# Altium schematic symbol library Regulator_Controller.SchLib: 154 symbols (part 1 of 2)
Pins are listed as number, name and electrical type; pins without a type are passive.

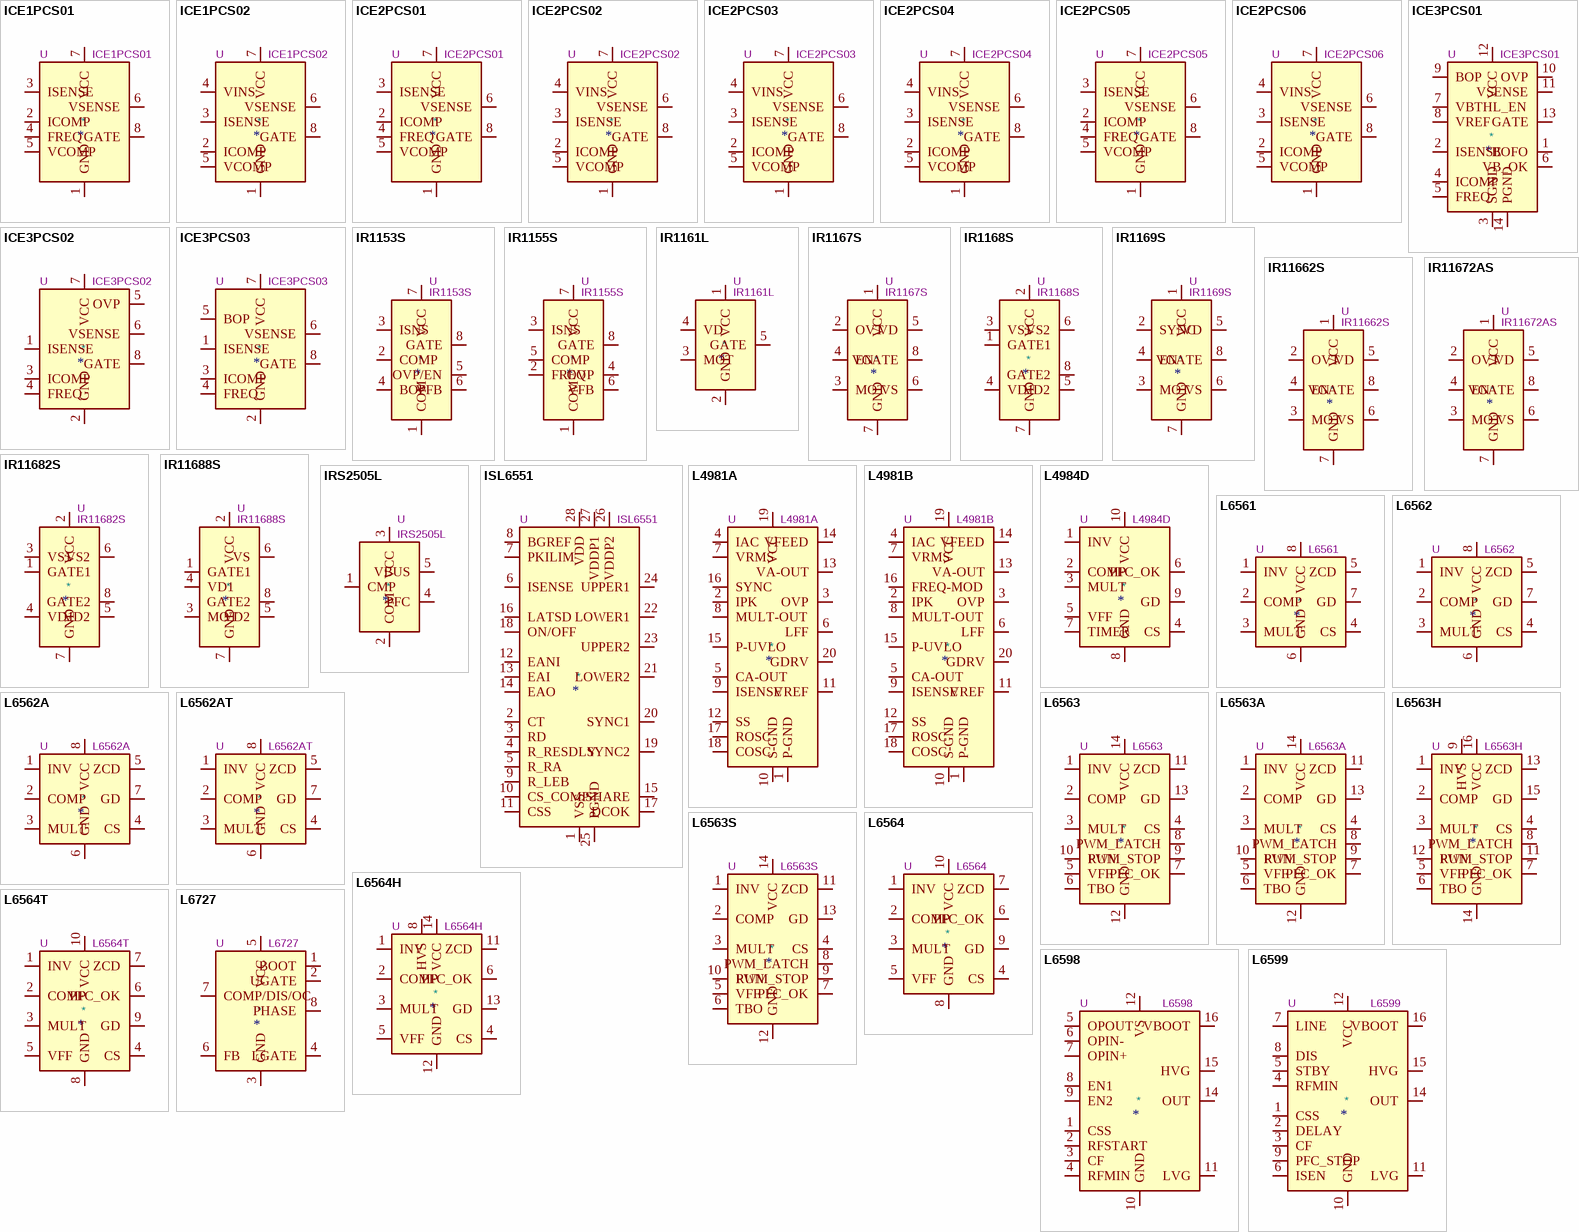
[diagram p0: symbols ICE1PCS01 to L6727]

## ICE1PCS01
designator *  value ICE1PCS01  Reference: U
ki_keywords: SMPS pfc controller; ki_description: Standalone PFC Controller in CCM, DIP-8/SOIC-8; ki_fp_filters: SOIC*3.9x4.9mm*P1.27mm* DIP*W7.62mm*; Datasheet: https://www.infineon.com/dgdl/Infineon-ICE1PCS01-DS-v01_03-en.pdf?fileId=db3a304412b407950112b427c6f13cc7
pins: 1 GND, 2 ICOMP, 3 ISENSE, 4 FREQ, 5 VCOMP, 6 VSENSE, 7 VCC, 8 GATE

## ICE1PCS02
designator *  value ICE1PCS02  Reference: U
ki_keywords: SMPS pfc controller; ki_description: Standalone PFC Controller in CCM With Input Brown-Out Protection, 65kHz, DIP-8/SOIC-8; ki_fp_filters: SOIC*3.9x4.9mm*P1.27mm* DIP*W7.62mm*; Datasheet: https://www.infineon.com/dgdl/Infineon-ICE1PCS02-DS-v01_02-en.pdf?fileId=db3a304412b407950112b427c9283ccb
pins: 1 GND, 2 ICOMP, 3 ISENSE, 4 VINS, 5 VCOMP, 6 VSENSE, 7 VCC, 8 GATE

## ICE2PCS01
designator *  value ICE2PCS01  Reference: U
ki_keywords: SMPS pfc controller; ki_description: Standalone PFC Controller in CCM, DIP-8/SOIC-8; ki_fp_filters: SOIC*3.9x4.9mm*P1.27mm* DIP*W7.62mm*; Datasheet: https://www.infineon.com/dgdl/Infineon-ICE2PCS01-DS-v02_03-en.pdf?fileId=db3a304412b407950112b427caa43ccf
pins: 1 GND, 2 ICOMP, 3 ISENSE, 4 FREQ, 5 VCOMP, 6 VSENSE, 7 VCC, 8 GATE

## ICE2PCS02
designator *  value ICE2PCS02  Reference: U
ki_keywords: SMPS pfc controller; ki_description: Standalone PFC Controller in CCM With Input Brown-Out Protection, 65kHz, DIP-8/SOIC-8; ki_fp_filters: SOIC*3.9x4.9mm*P1.27mm* DIP*W7.62mm*; Datasheet: https://www.infineon.com/dgdl/Infineon-ICE2PCS02-DS-v02_04-en.pdf?fileId=db3a304412b407950112b427cc3c3cdc
pins: 1 GND, 2 ICOMP, 3 ISENSE, 4 VINS, 5 VCOMP, 6 VSENSE, 7 VCC, 8 GATE

## ICE2PCS03
designator *  value ICE2PCS03  Reference: U
ki_keywords: SMPS pfc controller; ki_description: Standalone PFC Controller in CCM With Input Brown-Out Protection, 100kHz, DIP-8/SOIC-8; ki_fp_filters: SOIC*3.9x4.9mm*P1.27mm* DIP*W7.62mm*; Datasheet: https://www.infineon.com/dgdl/Infineon-ICE2PCS03-DS-v02_01-en.pdf?fileId=db3a30431936bc4b01193b45457e52a1
pins: 1 GND, 2 ICOMP, 3 ISENSE, 4 VINS, 5 VCOMP, 6 VSENSE, 7 VCC, 8 GATE

## ICE2PCS04
designator *  value ICE2PCS04  Reference: U
ki_keywords: SMPS pfc controller; ki_description: Standalone PFC Controller in CCM With Input Brown-Out Protection, 133kHz, DIP-8/SOIC-8; ki_fp_filters: SOIC*3.9x4.9mm*P1.27mm* DIP*W7.62mm*; Datasheet: https://www.infineon.com/dgdl/Infineon-ICE2PCS04-DS-v02_01-en.pdf?fileId=db3a30431936bc4b01193b4e467952a9
pins: 1 GND, 2 ICOMP, 3 ISENSE, 4 VINS, 5 VCOMP, 6 VSENSE, 7 VCC, 8 GATE

## ICE2PCS05
designator *  value ICE2PCS05  Reference: U
ki_keywords: SMPS pfc controller; ki_description: Standalone PFC Controller in CCM, DIP-8/SOIC-8; ki_fp_filters: SOIC*3.9x4.9mm*P1.27mm* DIP*W7.62mm*; Datasheet: https://www.infineon.com/dgdl/Infineon-ICE2PCS05-DS-v01_02-en.pdf?fileId=db3a30431c69a49d011cdfb46a834373
pins: 1 GND, 2 ICOMP, 3 ISENSE, 4 FREQ, 5 VCOMP, 6 VSENSE, 7 VCC, 8 GATE

## ICE2PCS06
designator *  value ICE2PCS06  Reference: U
ki_keywords: SMPS pfc controller; ki_description: Standalone PFC Controller in CCM With Input Brown-Out Protection, 65kHz, DIP-8/SOIC-8; ki_fp_filters: SOIC*3.9x4.9mm*P1.27mm* DIP*W7.62mm*; Datasheet: https://www.infineon.com/dgdl/Infineon-ICE2PCS06-DS-v01_01-en.pdf?fileId=db3a3043327f13e3013285ff4ecb2e77
pins: 1 GND, 2 ICOMP, 3 ISENSE, 4 VINS, 5 VCOMP, 6 VSENSE, 7 VCC, 8 GATE

## ICE3PCS01
designator *  value ICE3PCS01  Reference: U
ki_keywords: SMPS pfc controller; ki_description: Standalone PFC Controller in CCM, SOIC-14; ki_fp_filters: SOIC*3.9x8.7mm*P1.27mm*; Footprint: Package_SO:SOIC-14_3.9x8.7mm_P1.27mm; Datasheet: https://www.infineon.com/dgdl/Infineon-ICE3PCS01-DS-v03_00-EN.pdf?fileId=db3a304329a0f6ee0129a67ae8c02b46
pins: 1 BOFO, 2 ISENSE, 3 SGND, 4 ICOMP, 5 FREQ, 6 VB_OK, 7 VBTHL_EN, 8 VREF, 9 BOP, 10 OVP, 11 VSENSE, 12 VCC, 13 GATE, 14 PGND

## ICE3PCS02
designator *  value ICE3PCS02  Reference: U
ki_keywords: SMPS pfc controller; ki_description: Standalone PFC Controller in CCM, SOIC-8; ki_fp_filters: SOIC*3.9x4.9mm*P1.27mm*; Footprint: Package_SO:SOIC-8_3.9x4.9mm_P1.27mm; Datasheet: https://www.infineon.com/dgdl/Infineon-ICE3PCS02G-DS-v03_00-EN.pdf?fileId=db3a304329a0f6ee0129a67fab472b4b
pins: 1 ISENSE, 2 GND, 3 ICOMP, 4 FREQ, 5 OVP, 6 VSENSE, 7 VCC, 8 GATE

## ICE3PCS03
designator *  value ICE3PCS03  Reference: U
ki_keywords: SMPS pfc controller; ki_description: Standalone PFC Controller in CCM, SOIC-8; ki_fp_filters: SOIC*3.9x4.9mm*P1.27mm*; Footprint: Package_SO:SOIC-8_3.9x4.9mm_P1.27mm; Datasheet: https://www.infineon.com/dgdl/Infineon-ICE3PCS03G-DS-v03_00-EN.pdf?fileId=db3a304329a0f6ee0129a683c9c92b50
pins: 1 ISENSE, 2 GND, 3 ICOMP, 4 FREQ, 5 BOP, 6 VSENSE, 7 VCC, 8 GATE

## IR1153S
designator *  value IR1153S  Reference: U
ki_keywords: pfc controller ccm; ki_description: Fixed 22.2kHz Frequency, uPFC One Cycle Control IC With Brown-Out Protection, Continuous Conduction Mode, SOIC-8; ki_fp_filters: SOIC*3.9x4.9mm*P1.27mm*; Footprint: Package_SO:SOIC-8_3.9x4.9mm_P1.27mm; Datasheet: https://www.infineon.com/dgdl/ir1153.pdf?fileId=5546d462533600a4015355c42a5b1649
pins: 1 COM, 2 COMP, 3 ISNS, 4 BOP, 5 OVP/EN, 6 VFB, 7 VCC, 8 GATE

## IR1155S
designator *  value IR1155S  Reference: U
ki_keywords: pfc controller ccm; ki_description: Programmable Frequency, One Cycle Control PFC IC, Continuous Conduction Mode, SOIC-8; ki_fp_filters: SOIC*3.9x4.9mm*P1.27mm*; Footprint: Package_SO:SOIC-8_3.9x4.9mm_P1.27mm; Datasheet: https://www.infineon.com/dgdl/ir1155spbf.pdf?fileId=5546d462533600a4015355c431f9164b
pins: 1 COM, 2 FREQ, 3 ISNS, 4 OVP, 5 COMP, 6 VFB, 7 VCC, 8 GATE

## IR1161L
designator *  value IR1161L  Reference: U
ki_keywords: synchronous rectifier controller; ki_description: SmartRectifier Control IC, 500kHz, 200V, 1.0/2.5A, SOT-23-5; ki_fp_filters: SOT?23*; Footprint: Package_TO_SOT_SMD:SOT-23-5; Datasheet: https://www.infineon.com/dgdl/ir1161lpbf.pdf?fileId=5546d462533600a4015355c439a5164d
pins: 1 VCC, 2 GND, 3 MOT, 4 VD, 5 GATE

## IR1167S
designator *  value IR1167S  Reference: U
ki_keywords: synchronous rectifier controller; ki_description: SmartRectifier Control IC, 500kHz, 200V, 2.0/7.0A, SOIC-8; ki_fp_filters: SOIC*3.9x4.9mm*P1.27mm*; Footprint: Package_SO:SOIC-8_3.9x4.9mm_P1.27mm; Datasheet: https://www.infineon.com/dgdl/ir1167aspbf.pdf?fileId=5546d462533600a4015355c45d9c1655
pins: 1 VCC, 2 OVT, 3 MOT, 4 EN, 5 VD, 6 VS, 7 GND, 8 VGATE

## IR1168S
designator *  value IR1168S  Reference: U
ki_keywords: dual synchronous rectifier controller; ki_description: Dual Smart Rectifier Driver IC, 500kHz, 200V, 1.0/4.0A, SOIC-8; ki_fp_filters: SOIC*3.9x4.9mm*P1.27mm*; Footprint: Package_SO:SOIC-8_3.9x4.9mm_P1.27mm; Datasheet: https://www.infineon.com/dgdl/ir1168.pdf?fileId=5546d462533600a4015355c467fa1658
pins: 1 GATE1, 2 VCC, 3 VS1, 4 VD1, 5 VD2, 6 VS2, 7 GND, 8 GATE2

## IR1169S
designator *  value IR1169S  Reference: U
ki_keywords: synchronous rectifier controller; ki_description: Advanced SmartRectifier Control IC, 500kHz, 200V, 1.0/4.0A, SOIC-8; ki_fp_filters: SOIC*3.9x4.9mm*P1.27mm*; Footprint: Package_SO:SOIC-8_3.9x4.9mm_P1.27mm; Datasheet: https://www.infineon.com/dgdl/ir1169.pdf?fileId=5546d462533600a4015355c485c4165e
pins: 1 VCC, 2 SYNC, 3 MOT, 4 EN, 5 VD, 6 VS, 7 GND, 8 VGATE

## IR11662S
designator *  value IR11662S  Reference: U
ki_keywords: synchronous rectifier controller; ki_description: Advanced SmartRectifier Control IC, 500kHz, 200V, 1.0/4.0A, SOIC-8; ki_fp_filters: SOIC*3.9x4.9mm*P1.27mm*; Footprint: Package_SO:SOIC-8_3.9x4.9mm_P1.27mm; Datasheet: https://www.infineon.com/dgdl/ir11662spbf.pdf?fileId=5546d462533600a4015355c44195164f
pins: 1 VCC, 2 OVT, 3 MOT, 4 EN, 5 VD, 6 VS, 7 GND, 8 VGATE

## IR11672AS
designator *  value IR11672AS  Reference: U
ki_keywords: synchronous rectifier controller; ki_description: Advanced SmartRectifier Control IC, 500kHz, 200V, 2.0/7.0A, SOIC-8; ki_fp_filters: SOIC*3.9x4.9mm*P1.27mm*; Footprint: Package_SO:SOIC-8_3.9x4.9mm_P1.27mm; Datasheet: https://www.infineon.com/dgdl/ir11672aspbf.pdf?fileId=5546d462533600a4015355c455561653
pins: 1 VCC, 2 OVT, 3 MOT, 4 EN, 5 VD, 6 VS, 7 GND, 8 VGATE

## IR11682S
designator *  value IR11682S  Reference: U
ki_keywords: dual synchronous rectifier controller; ki_description: Dual SmartRectifier Driver IC, 400kHz, 200V, 1.0/4.0A, SOIC-8; ki_fp_filters: SOIC*3.9x4.9mm*P1.27mm*; Footprint: Package_SO:SOIC-8_3.9x4.9mm_P1.27mm; Datasheet: https://www.infineon.com/dgdl/ir11682spbf.pdf?fileId=5546d462533600a4015355c47188165a
pins: 1 GATE1, 2 VCC, 3 VS1, 4 VD1, 5 VD2, 6 VS2, 7 GND, 8 GATE2

## IR11688S
designator *  value IR11688S  Reference: U
ki_keywords: dual synchronous rectifier controller; ki_description: Dual Synchronous Rectification Control IC, 400kHz, 200V, 1.0/4.0A, SOIC-8; ki_fp_filters: SOIC*3.9x4.9mm*P1.27mm*; Footprint: Package_SO:SOIC-8_3.9x4.9mm_P1.27mm; Datasheet: https://www.infineon.com/dgdl/ir11688spbf.pdf?fileId=5546d462533600a4015355c47c70165c
pins: 1 GATE1, 2 VCC, 3 MOT, 4 VD1, 5 VD2, 6 VS, 7 GND, 8 GATE2

## IRS2505L
designator *  value IRS2505L  Reference: U
ki_keywords: pfc controller crcm dcm; ki_description: Boost PFC and SMPS Control IC, Critical Conduction Mode, SOT-23-5; ki_fp_filters: SOT?23*; Footprint: Package_TO_SOT_SMD:SOT-23-5; Datasheet: https://www.infineon.com/dgdl/irs2505lpbf.pdf?fileId=5546d462533600a40153567ad42c2819
pins: 1 CMP, 2 COM, 3 VCC, 4 PFC, 5 VBUS

## ISL6551
designator *  value ISL6551  Reference: U
ki_keywords: SMPS controller; ki_description: ZVS Full Bridge PWM Controller, SOIC-28; ki_fp_filters: SOIC*7.5x17.9mm*P1.27mm*; Footprint: Package_SO:SOIC-28W_7.5x17.9mm_P1.27mm; Datasheet: https://www.intersil.com/content/dam/Intersil/documents/isl6/isl6551.pdf
pins: 1 VSS, 2 CT, 3 RD, 4 R_RESDLY, 5 R_RA, 6 ISENSE, 7 PKILIM, 8 BGREF, 9 R_LEB, 10 CS_COMP, 11 CSS, 12 EANI, 13 EAI, 14 EAO, 15 SHARE, 16 LATSD, 17 DCOK, 18 ON/OFF, 19 SYNC2, 20 SYNC1, 21 LOWER2, 22 LOWER1, 23 UPPER2, 24 UPPER1, 25 PGND, 26 VDDP2, 27 VDDP1, 28 VDD

## L4981A
designator *  value L4981A  Reference: U
ki_keywords: SMPS pfc controller; ki_description: Power Factor Corrector, Fixed Frequency Average Current Mode, DIP-20/SOIC-20; ki_fp_filters: SOIC*7.5x12.8mm*P1.27mm* DIP*W7.62mm*; Datasheet: http://www.st.com/resource/en/datasheet/l4981.pdf
pins: 1 P-GND, 2 IPK, 3 OVP, 4 IAC, 5 CA-OUT, 6 LFF, 7 VRMS, 8 MULT-OUT, 9 ISENSE, 10 S-GND, 11 VREF, 12 SS, 13 VA-OUT, 14 VFEED, 15 P-UVLO, 16 SYNC, 17 ROSC, 18 COSC, 19 VCC, 20 GDRV

## L4981B
designator *  value L4981B  Reference: U
ki_keywords: SMPS pfc controller; ki_description: Power Factor Corrector, Line Modulated Frequency Average Current Mode, DIP-20/SOIC-20; ki_fp_filters: SOIC*7.5x12.8mm*P1.27mm* DIP*W7.62mm*; Datasheet: http://www.st.com/resource/en/datasheet/l4981.pdf
pins: 1 P-GND, 2 IPK, 3 OVP, 4 IAC, 5 CA-OUT, 6 LFF, 7 VRMS, 8 MULT-OUT, 9 ISENSE, 10 S-GND, 11 VREF, 12 SS, 13 VA-OUT, 14 VFEED, 15 P-UVLO, 16 FREQ-MOD, 17 ROSC, 18 COSC, 19 VCC, 20 GDRV

## L4984D
designator *  value L4984D  Reference: U
ki_keywords: SMPS pfc controller; ki_description: CCM PFC Controller, SSOP-10; ki_fp_filters: SSOP*3.9x4.9mm*P1.00mm*; Footprint: Package_SO:SSOP-10_3.9x4.9mm_P1.00mm; Datasheet: http://www.st.com/resource/en/datasheet/l4984d.pdf
pins: 1 INV, 2 COMP, 3 MULT, 4 CS, 5 VFF, 6 PFC_OK, 7 TIMER, 8 GND, 9 GD, 10 VCC

## L6561
designator *  value L6561  Reference: U
ki_keywords: SMPS pfc controller; ki_description: Transition Mode Power Factor Corrector, DIP-8/SOIC-8; ki_fp_filters: SOIC*3.9x4.9mm*P1.27mm* DIP*W7.62mm*; Datasheet: http://www.st.com/resource/en/datasheet/l6561.pdf
pins: 1 INV, 2 COMP, 3 MULT, 4 CS, 5 ZCD, 6 GND, 7 GD, 8 VCC

## L6562
designator *  value L6562  Reference: U
ki_keywords: SMPS pfc controller; ki_description: Transition-Mode PFC Controller, DIP-8/SOIC-8; ki_fp_filters: SOIC*3.9x4.9mm*P1.27mm* DIP*W7.62mm*; Datasheet: http://www.st.com/resource/en/datasheet/l6562.pdf
pins: 1 INV, 2 COMP, 3 MULT, 4 CS, 5 ZCD, 6 GND, 7 GD, 8 VCC

## L6562A
designator *  value L6562A  Reference: U
ki_keywords: SMPS pfc controller; ki_description: Transition-Mode PFC Controller, DIP-8/SOIC-8; ki_fp_filters: SOIC*3.9x4.9mm*P1.27mm* DIP*W7.62mm*; Datasheet: http://www.st.com/resource/en/datasheet/l6562a.pdf
pins: 1 INV, 2 COMP, 3 MULT, 4 CS, 5 ZCD, 6 GND, 7 GD, 8 VCC

## L6562AT
designator *  value L6562AT  Reference: U
ki_keywords: SMPS pfc controller; ki_description: Transition-Mode PFC Controller, DIP-8/SOIC-8; ki_fp_filters: SOIC*3.9x4.9mm*P1.27mm* DIP*W7.62mm*; Datasheet: http://www.st.com/resource/en/datasheet/l6562at.pdf
pins: 1 INV, 2 COMP, 3 MULT, 4 CS, 5 ZCD, 6 GND, 7 GD, 8 VCC

## L6563
designator *  value L6563  Reference: U
ki_keywords: SMPS pfc controller; ki_description: Advanced Transition-Mode PFC Controller, SOIC-14; ki_fp_filters: SOIC*3.9x8.7mm*P1.27mm*; Footprint: Package_SO:SOIC-14_3.9x8.7mm_P1.27mm; Datasheet: http://www.st.com/resource/en/datasheet/l6563.pdf
pins: 1 INV, 2 COMP, 3 MULT, 4 CS, 5 VFF, 6 TBO, 7 PFC_OK, 8 PWM_LATCH, 9 PWM_STOP, 10 RUN, 11 ZCD, 12 GND, 13 GD, 14 VCC

## L6563A
designator *  value L6563A  Reference: U
ki_keywords: SMPS pfc controller; ki_description: Advanced Transition-Mode PFC Controller, SOIC-14; ki_fp_filters: SOIC*3.9x8.7mm*P1.27mm*; Footprint: Package_SO:SOIC-14_3.9x8.7mm_P1.27mm; Datasheet: http://www.st.com/resource/en/datasheet/l6563.pdf
pins: 1 INV, 2 COMP, 3 MULT, 4 CS, 5 VFF, 6 TBO, 7 PFC_OK, 8 PWM_LATCH, 9 PWM_STOP, 10 RUN, 11 ZCD, 12 GND, 13 GD, 14 VCC

## L6563H
designator *  value L6563H  Reference: U
ki_keywords: SMPS pfc controller; ki_description: High Voltage Start-Up Transition-Mode PFC, SOIC-16; ki_fp_filters: SOIC*3.9x9.9mm*P1.27mm*; Footprint: Package_SO:SOIC-16_3.9x9.9mm_P1.27mm; Datasheet: http://www.st.com/resource/en/datasheet/l6563h.pdf
pins: 1 INV, 2 COMP, 3 MULT, 4 CS, 5 VFF, 6 TBO, 7 PFC_OK, 8 PWM_LATCH, 9 HVS, 10 NC hidden, 11 PWM_STOP, 12 RUN, 13 ZCD, 14 GND, 15 GD, 16 VCC

## L6563S
designator *  value L6563S  Reference: U
ki_keywords: SMPS pfc controller; ki_description: Enhanced Transition-Mode PFC Controller, SOIC-14; ki_fp_filters: SOIC*3.9x8.7mm*P1.27mm*; Footprint: Package_SO:SOIC-14_3.9x8.7mm_P1.27mm; Datasheet: http://www.st.com/resource/en/datasheet/l6563s.pdf
pins: 1 INV, 2 COMP, 3 MULT, 4 CS, 5 VFF, 6 TBO, 7 PFC_OK, 8 PWM_LATCH, 9 PWM_STOP, 10 RUN, 11 ZCD, 12 GND, 13 GD, 14 VCC

## L6564
designator *  value L6564  Reference: U
ki_keywords: SMPS pfc controller; ki_description: 10-Pin Transition-Mode PFC Controller, SSOP-10; ki_fp_filters: SSOP*3.9x4.9mm*P1.00mm*; Footprint: Package_SO:SSOP-10_3.9x4.9mm_P1.00mm; Datasheet: http://www.st.com/resource/en/datasheet/l6564.pdf
pins: 1 INV, 2 COMP, 3 MULT, 4 CS, 5 VFF, 6 PFC_OK, 7 ZCD, 8 GND, 9 GD, 10 VCC

## L6564H
designator *  value L6564H  Reference: U
ki_keywords: SMPS pfc controller; ki_description: High Voltage Start-Up Transition-Mode PFC, SOIC-14; ki_fp_filters: SOIC*3.9x8.7mm*P1.27mm*; Footprint: Package_SO:SOIC-14_3.9x8.7mm_P1.27mm; Datasheet: http://www.st.com/resource/en/datasheet/l6564h.pdf
pins: 1 INV, 2 COMP, 3 MULT, 4 CS, 5 VFF, 6 PFC_OK, 7 NC hidden, 8 HVS, 9 NC hidden, 10 NC hidden, 11 ZCD, 12 GND, 13 GD, 14 VCC

## L6564T
designator *  value L6564T  Reference: U
ki_keywords: SMPS pfc controller; ki_description: 10-Pin Transition-Mode PFC Controller for Outdoor Applications, SSOP-10; ki_fp_filters: SSOP*3.9x4.9mm*P1.00mm*; Footprint: Package_SO:SSOP-10_3.9x4.9mm_P1.00mm; Datasheet: http://www.st.com/resource/en/datasheet/l6564t.pdf
pins: 1 INV, 2 COMP, 3 MULT, 4 CS, 5 VFF, 6 PFC_OK, 7 ZCD, 8 GND, 9 GD, 10 VCC

## L6598
designator *  value L6598  Reference: U
ki_keywords: SMPS controller; ki_description: High Voltage Resonant Controller, DIP-16/SOIC-16; ki_fp_filters: SOIC*3.9x9.9mm*P1.27mm* DIP*W7.62mm*; Datasheet: www.st.com/resource/en/datasheet/l6598.pdf
pins: 1 CSS, 2 RFSTART, 3 CF, 4 RFMIN, 5 OPOUT, 6 OPIN-, 7 OPIN+, 8 EN1, 9 EN2, 10 GND, 11 LVG, 12 VS, 13 NC hidden, 14 OUT, 15 HVG, 16 VBOOT

## L6599
designator *  value L6599  Reference: U
ki_keywords: SMPS controller; ki_description: High Voltage Resonant Controller, DIP-16/SOIC-16; ki_fp_filters: SOIC*3.9x9.9mm*P1.27mm* DIP*W7.62mm*; Datasheet: www.st.com/resource/en/datasheet/l6599.pdf
pins: 1 CSS, 2 DELAY, 3 CF, 4 RFMIN, 5 STBY, 6 ISEN, 7 LINE, 8 DIS, 9 PFC_STOP, 10 GND, 11 LVG, 12 VCC, 13 NC hidden, 14 OUT, 15 HVG, 16 VBOOT

## L6727
designator *  value L6727  Reference: U
ki_keywords: SMPS controller; ki_description: Single Phase PWM Controller, SOIC-8; ki_fp_filters: SOIC*3.9x4.9mm*P1.27mm*; Footprint: Package_SO:SOIC-8_3.9x4.9mm_P1.27mm; Datasheet: http://www.st.com/resource/en/datasheet/l6727.pdf
pins: 1 BOOT, 2 UGATE, 3 GND, 4 LGATE, 5 VCC, 6 FB, 7 COMP/DIS/OC, 8 PHASE

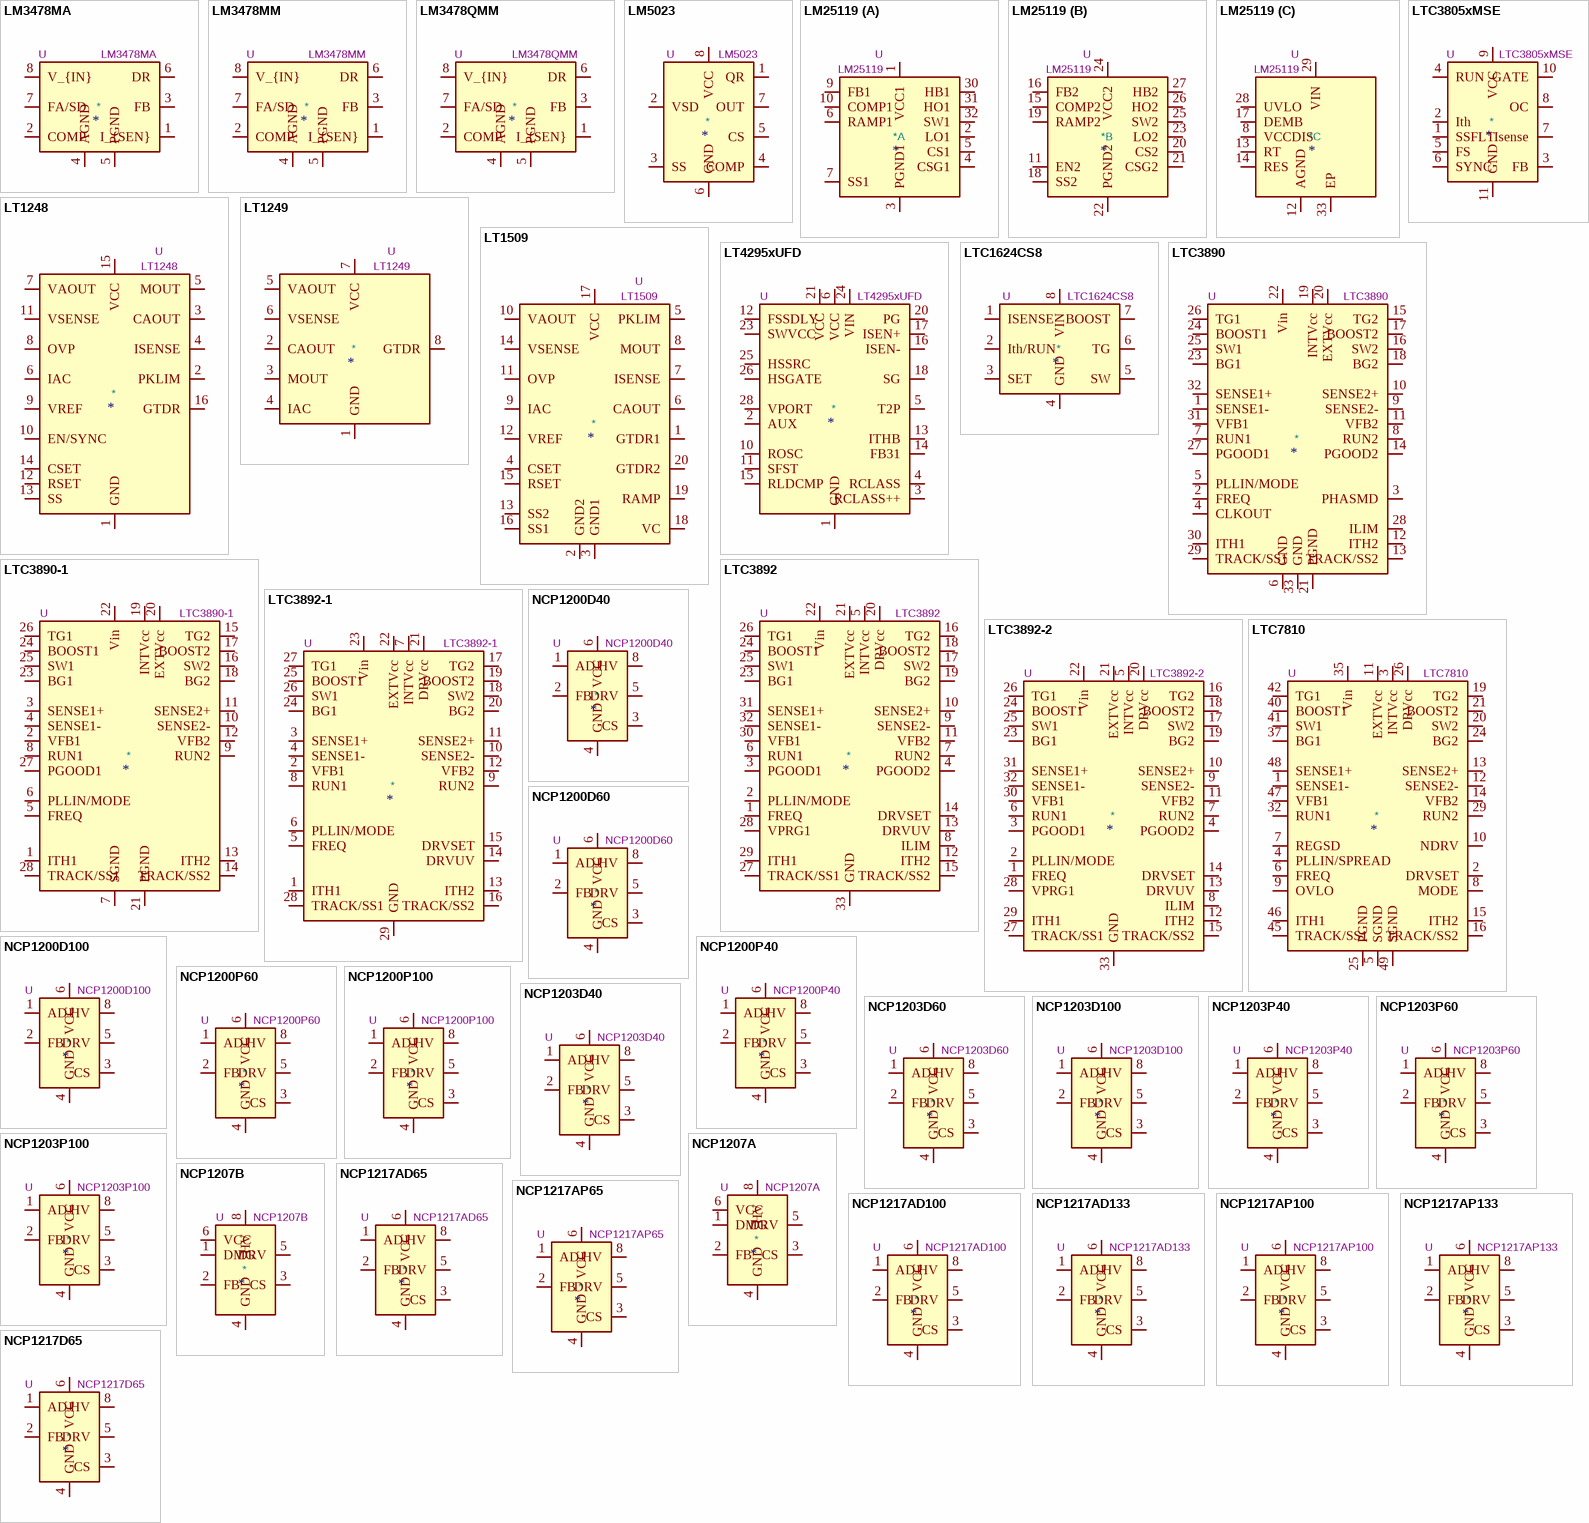
[diagram p1: symbols LM3478MA to NCP1217D65]

## LM3478MA
designator *  value LM3478MA  Reference: U
ki_keywords: Boost flyback SEPIC DC-DC controller; ki_description: 2.97~40V Wide Input Range Boost/SEPIC/Flyback DC-DC Controller, SOIC-8; ki_fp_filters: SOIC-8*3.9x4.9mm_P1.27mm*; Footprint: Package_SO:SOIC-8_3.9x4.9mm_P1.27mm; Datasheet: https://www.ti.com/lit/gpn/lm3478
pins: 1 I_{SEN}, 2 COMP, 3 FB, 4 AGND, 5 PGND, 6 DR, 7 FA/SD, 8 V_{IN}

## LM3478MM
designator *  value LM3478MM  Reference: U
ki_keywords: Boost flyback SEPIC DC-DC controller; ki_description: 2.97~40V Wide Input Range Boost/SEPIC/Flyback DC-DC Controller, VSSOP-8; ki_fp_filters: VSSOP-8_3.0x3.0mm_P0.65mm*; Footprint: Package_SO:VSSOP-8_3.0x3.0mm_P0.65mm; Datasheet: https://www.ti.com/lit/gpn/lm3478
pins: 1 I_{SEN}, 2 COMP, 3 FB, 4 AGND, 5 PGND, 6 DR, 7 FA/SD, 8 V_{IN}

## LM3478QMM
designator *  value LM3478QMM  Reference: U
ki_keywords: Boost flyback SEPIC DC-DC controller Automotive; ki_description: 2.97~40V Wide Input Range Boost/SEPIC/Flyback DC-DC Controller, AEC-Q100 Qualified, VSSOP-8; ki_fp_filters: VSSOP-8_3.0x3.0mm_P0.65mm*; Footprint: Package_SO:VSSOP-8_3.0x3.0mm_P0.65mm; Datasheet: https://www.ti.com/lit/gpn/lm3478q-q1
pins: 1 I_{SEN}, 2 COMP, 3 FB, 4 AGND, 5 PGND, 6 DR, 7 FA/SD, 8 V_{IN}

## LM5023
designator *  value LM5023  Reference: U
ki_keywords: smps pwm controller ac-dc ac dc offline off-line quasi resonant quasi-resonant flyback; ki_description: Quasi-Resonant Current-Mode PWM Controller for Off-Line Supplies, OVP/OTP, Latched OVP, VSSOP-8; ki_fp_filters: VSSOP*3.0x3.0mm*P0.65mm*; Footprint: Package_SO:VSSOP-8_3.0x3.0mm_P0.65mm; Datasheet: https://www.ti.com/lit/ds/symlink/lm5023.pdf
pins: 1 QR, 2 VSD, 3 SS, 4 COMP, 5 CS, 6 GND, 7 OUT, 8 VCC

## LM25119
designator *  value LM25119  Reference: U
ki_keywords: Dual Synchronous Buck; ki_description: Wide Input Range, Dual Synchronous Buck Controller, WQFN-32; ki_fp_filters: WQFN*5x5mm*P0.5mm*; Footprint: Package_DFN_QFN:WQFN-32-1EP_5x5mm_P0.5mm_EP3.1x3.1mm; Datasheet: http://www.ti.com/lit/ds/symlink/lm25119.pdf
part A pins: 1 VCC1, 2 LO1, 3 PGND1, 4 CSG1, 5 CS1, 6 RAMP1, 7 SS1, 9 FB1, 10 COMP1, 30 HB1, 31 HO1, 32 SW1
part B pins: 11 EN2, 15 COMP2, 16 FB2, 18 SS2, 19 RAMP2, 20 CS2, 21 CSG2, 22 PGND2, 23 LO2, 24 VCC2, 25 SW2, 26 HO2, 27 HB2
part C pins: 8 VCCDIS, 12 AGND, 13 RT, 14 RES, 17 DEMB, 28 UVLO, 29 VIN, 33 EP

## LT1248
designator *  value LT1248  Reference: U
ki_keywords: pfc controller; ki_description: Power Factor Controller, DIP-16/SOIC-16; ki_fp_filters: SOIC*16*3.9x9.9mm*P1.27mm* DIP*16*W7.62mm*; Datasheet: https://www.analog.com/media/en/technical-documentation/data-sheets/1248fd.pdf
pins: 1 GND, 2 PKLIM, 3 CAOUT, 4 ISENSE, 5 MOUT, 6 IAC, 7 VAOUT, 8 OVP, 9 VREF, 10 EN/SYNC, 11 VSENSE, 12 RSET, 13 SS, 14 CSET, 15 VCC, 16 GTDR

## LT1249
designator *  value LT1249  Reference: U
ki_keywords: pfc controller; ki_description: Power Factor Controller, DIP-8/SOIC-8; ki_fp_filters: SOIC*3.9x4.9mm*P1.27mm* DIP*W7.62mm*; Datasheet: https://www.analog.com/media/en/technical-documentation/data-sheets/1249fbs.pdf
pins: 1 GND, 2 CAOUT, 3 MOUT, 4 IAC, 5 VAOUT, 6 VSENSE, 7 VCC, 8 GTDR

## LT1509
designator *  value LT1509  Reference: U
ki_keywords: pfc pwm controller; ki_description: Power Factor and PWM Controller, DIP-20/SOIC-20; ki_fp_filters: SOIC*7.5x12.8mm*P1.27mm* DIP*W7.62mm*; Datasheet: https://www.analog.com/media/en/technical-documentation/data-sheets/lt1509.pdf
pins: 1 GTDR1, 2 GND2, 3 GND1, 4 CSET, 5 PKLIM, 6 CAOUT, 7 ISENSE, 8 MOUT, 9 IAC, 10 VAOUT, 11 OVP, 12 VREF, 13 SS2, 14 VSENSE, 15 RSET, 16 SS1, 17 VCC, 18 VC, 19 RAMP, 20 GTDR2

## LT4295xUFD
designator *  value LT4295xUFD  Reference: U
ki_keywords: LTPoE++ IEEE 802.3af IEEE 802.3at IEEE 802.3bt; ki_description: IEEE 802.3bt PD Interface with Forward/Flyback Controller, QFN-28; ki_fp_filters: QFN*1EP*4x5mm*P0.5mm*; Footprint: Package_DFN_QFN:QFN-28-1EP_4x5mm_P0.5mm_EP2.65x3.65mm; Datasheet: https://www.analog.com/media/en/technical-documentation/data-sheets/LT4295.pdf
pins: 1 GND, 2 AUX, 3 RCLASS++, 4 RCLASS, 5 T2P, 6 VCC, 7 VCC hidden, 8 VCC hidden, 9 VCC hidden, 10 ROSC, 11 SFST, 12 FSSDLY, 13 ITHB, 14 FB31, 15 RLDCMP, 16 ISEN-, 17 ISEN+, 18 SG, 19 GND hidden, 20 PG, 21 VCC, 22 DNC hidden, 23 SWVCC, 24 VIN, 25 HSSRC, 26 HSGATE, 27 NC hidden, 28 VPORT, 29 GND hidden

## LTC1624CS8
designator *  value LTC1624CS8  Reference: U
ki_keywords: Switching Regulator Controller; ki_description: High Efficiency N-Channel Switching Regulator Controller, SOIC-8; ki_fp_filters: SOIC*3.9x4.9mm*P1.27mm*; Footprint: Package_SO:SOIC-8_3.9x4.9mm_P1.27mm; Datasheet: https://www.analog.com/media/en/technical-documentation/data-sheets/1624f.pdf
pins: 1 ISENSE, 2 Ith/RUN, 3 SET, 4 GND, 5 SW, 6 TG, 7 BOOST, 8 VIN

## LTC3805xMSE
designator *  value LTC3805xMSE  Reference: U
ki_keywords: flyback dc-dc switcher switching; ki_description: Adjustable Frequency current Mode Flyback DC/DC controller, MSOP-10; ki_fp_filters: MSOP*10*3x3mm*P0.5mm*; Footprint: Package_SO:MSOP-10-1EP_3x3mm_P0.5mm_EP1.68x1.88mm; Datasheet: https://www.analog.com/media/en/technical-documentation/data-sheets/3805fg.pdf
pins: 1 SSFLT, 2 Ith, 3 FB, 4 RUN, 5 FS, 6 SYNC, 7 Isense, 8 OC, 9 VCC, 10 GATE, 11 GND

## LTC3890
designator *  value LTC3890  Reference: U
ki_keywords: switching buck converter regulator dual-output; ki_description: 60V dual 2-phase synchronous step-down DC/DC controller, QFN-32; ki_fp_filters: QFN*5x5mm*P0.5mm*; Footprint: Package_DFN_QFN:QFN-32-1EP_5x5mm_P0.5mm_EP3.45x3.45mm; Datasheet: https://www.analog.com/media/en/technical-documentation/data-sheets/3890fc.pdf
pins: 1 SENSE1-, 2 FREQ, 3 PHASMD, 4 CLKOUT, 5 PLLIN/MODE, 6 GND, 7 RUN1, 8 RUN2, 9 SENSE2-, 10 SENSE2+, 11 VFB2, 12 ITH2, 13 TRACK/SS2, 14 PGOOD2, 15 TG2, 16 SW2, 17 BOOST2, 18 BG2, 19 INTVcc, 20 EXTVcc, 21 PGND, 22 Vin, 23 BG1, 24 BOOST1, 25 SW1, 26 TG1, 27 PGOOD1, 28 ILIM, 29 TRACK/SS1, 30 ITH1, 31 VFB1, 32 SENSE1+, 33 GND

## LTC3890-1
designator *  value LTC3890-1  Reference: U
ki_keywords: switching buck converter regulator dual-output; ki_description: 60V dual 2-phase synchronous step-down DC/DC controller, SSOP-28; ki_fp_filters: SSOP*3.9x9.9mm*P0.635mm*; Footprint: Package_SO:SSOP-28_3.9x9.9mm_P0.635mm; Datasheet: https://www.analog.com/media/en/technical-documentation/data-sheets/38901fb.pdf
pins: 1 ITH1, 2 VFB1, 3 SENSE1+, 4 SENSE1-, 5 FREQ, 6 PLLIN/MODE, 7 SGND, 8 RUN1, 9 RUN2, 10 SENSE2-, 11 SENSE2+, 12 VFB2, 13 ITH2, 14 TRACK/SS2, 15 TG2, 16 SW2, 17 BOOST2, 18 BG2, 19 INTVcc, 20 EXTVcc, 21 PGND, 22 Vin, 23 BG1, 24 BOOST1, 25 SW1, 26 TG1, 27 PGOOD1, 28 TRACK/SS1

## LTC3892
designator *  value LTC3892  Reference: U
ki_keywords: switching buck converter regulator dual-output; ki_description: 60V dual 2-phase synchronous step-down DC/DC controller, continuous conduction, QFN-32; ki_fp_filters: QFN*5x5mm*P0.5mm*; Footprint: Package_DFN_QFN:QFN-32-1EP_5x5mm_P0.5mm_EP3.45x3.45mm; Datasheet: https://www.analog.com/media/en/technical-documentation/data-sheets/38921fc.pdf
pins: 1 FREQ, 2 PLLIN/MODE, 3 PGOOD1, 4 PGOOD2, 5 INTVcc, 6 RUN1, 7 RUN2, 8 ILIM, 9 SENSE2-, 10 SENSE2+, 11 VFB2, 12 ITH2, 13 DRVUV, 14 DRVSET, 15 TRACK/SS2, 16 TG2, 17 SW2, 18 BOOST2, 19 BG2, 20 DRVcc, 21 EXTVcc, 22 Vin, 23 BG1, 24 BOOST1, 25 SW1, 26 TG1, 27 TRACK/SS1, 28 VPRG1, 29 ITH1, 30 VFB1, 31 SENSE1+, 32 SENSE1-, 33 GND

## LTC3892-1
designator *  value LTC3892-1  Reference: U
ki_keywords: switching buck converter regulator dual-output; ki_description: 60V dual 2-phase synchronous step-down DC/DC controller, forced continuous conduction mode, TSSOP-28; ki_fp_filters: TSSOP*1EP*4.4x9.7mm*P0.65mm*; Footprint: Package_SO:TSSOP-28-1EP_4.4x9.7mm_P0.65mm; Datasheet: https://www.analog.com/media/en/technical-documentation/data-sheets/38921fc.pdf
pins: 1 ITH1, 2 VFB1, 3 SENSE1+, 4 SENSE1-, 5 FREQ, 6 PLLIN/MODE, 7 INTVcc, 8 RUN1, 9 RUN2, 10 SENSE2-, 11 SENSE2+, 12 VFB2, 13 ITH2, 14 DRVUV, 15 DRVSET, 16 TRACK/SS2, 17 TG2, 18 SW2, 19 BOOST2, 20 BG2, 21 DRVcc, 22 EXTVcc, 23 Vin, 24 BG1, 25 BOOST1, 26 SW1, 27 TG1, 28 TRACK/SS1, 29 GND

## LTC3892-2
designator *  value LTC3892-2  Reference: U
ki_keywords: switching buck converter regulator dual-output; ki_description: 60V dual 2-phase synchronous step-down DC/DC controller, pulse-skipping, QFN-32; ki_fp_filters: QFN*5x5mm*P0.5mm*; Footprint: Package_DFN_QFN:QFN-32-1EP_5x5mm_P0.5mm_EP3.45x3.45mm; Datasheet: https://www.analog.com/media/en/technical-documentation/data-sheets/38921fc.pdf
pins: 1 FREQ, 2 PLLIN/MODE, 3 PGOOD1, 4 PGOOD2, 5 INTVcc, 6 RUN1, 7 RUN2, 8 ILIM, 9 SENSE2-, 10 SENSE2+, 11 VFB2, 12 ITH2, 13 DRVUV, 14 DRVSET, 15 TRACK/SS2, 16 TG2, 17 SW2, 18 BOOST2, 19 BG2, 20 DRVcc, 21 EXTVcc, 22 Vin, 23 BG1, 24 BOOST1, 25 SW1, 26 TG1, 27 TRACK/SS1, 28 VPRG1, 29 ITH1, 30 VFB1, 31 SENSE1+, 32 SENSE1-, 33 GND

## LTC7810
designator *  value LTC7810  Reference: U
ki_keywords: switching buck converter regulator dual-output; ki_description: 150V dual 2-phase synchronous step-down DC/DC controller, LQPF-48; ki_fp_filters: LQFP?48?1EP*7x7mm*P0.5mm*EP3.6x3.6mm*; Footprint: Package_QFP:LQFP-48-1EP_7x7mm_P0.5mm_EP3.6x3.6mm; Datasheet: https://www.analog.com/media/en/technical-documentation/data-sheets/LTC7810.pdf
pins: 1 SENSE1-, 2 DRVSET, 3 INTVcc, 4 PLLIN/SPREAD, 5 SGND, 6 FREQ, 7 REGSD, 8 MODE, 9 OVLO, 10 NDRV, 11 EXTVcc, 12 SENSE2-, 13 SENSE2+, 14 VFB2, 15 ITH2, 16 TRACK/SS2, 19 TG2, 20 SW2, 21 BOOST2, 24 BG2, 25 PGND, 26 DRVcc, 29 RUN2, 32 RUN1, 35 Vin, 37 BG1, 40 BOOST1, 41 SW1, 42 TG1, 45 TRACK/SS1, 46 ITH1, 47 VFB1, 48 SENSE1+, 49 SGND

## NCP1200D40
designator *  value NCP1200D40  Reference: U
ki_keywords: SMPS Controller AC-DC; ki_description: PWM Current-Mode Controller for Off-Line Supplies, AC-DC, 40kHz, SOIC-8; ki_fp_filters: SOIC*3.9x4.9mm*P1.27mm*; Footprint: Package_SO:SOIC-8_3.9x4.9mm_P1.27mm; Datasheet: http://www.onsemi.com/pub_link/Collateral/NCP1200-D.PDF
pins: 1 ADJ, 2 FB, 3 CS, 4 GND, 5 DRV, 6 VCC, 7 NC hidden, 8 HV

## NCP1200D60
designator *  value NCP1200D60  Reference: U
ki_keywords: SMPS Controller AC-DC; ki_description: PWM Current-Mode Controller for Off-Line Supplies, AC-DC, 60kHz, SOIC-8; ki_fp_filters: SOIC*3.9x4.9mm*P1.27mm*; Footprint: Package_SO:SOIC-8_3.9x4.9mm_P1.27mm; Datasheet: http://www.onsemi.com/pub_link/Collateral/NCP1200-D.PDF
pins: 1 ADJ, 2 FB, 3 CS, 4 GND, 5 DRV, 6 VCC, 7 NC hidden, 8 HV

## NCP1200D100
designator *  value NCP1200D100  Reference: U
ki_keywords: SMPS Controller AC-DC; ki_description: PWM Current-Mode Controller for Off-Line Supplies, AC-DC, 100kHz, SOIC-8; ki_fp_filters: SOIC*3.9x4.9mm*P1.27mm*; Footprint: Package_SO:SOIC-8_3.9x4.9mm_P1.27mm; Datasheet: http://www.onsemi.com/pub_link/Collateral/NCP1200-D.PDF
pins: 1 ADJ, 2 FB, 3 CS, 4 GND, 5 DRV, 6 VCC, 7 NC hidden, 8 HV

## NCP1200P40
designator *  value NCP1200P40  Reference: U
ki_keywords: SMPS Controller AC-DC; ki_description: PWM Current-Mode Controller for Off-Line Supplies, AC-DC, 40kHz, PDIP-8; ki_fp_filters: DIP*W7.62mm*; Footprint: Package_DIP:DIP-8_W7.62mm; Datasheet: http://www.onsemi.com/pub_link/Collateral/NCP1200-D.PDF
pins: 1 ADJ, 2 FB, 3 CS, 4 GND, 5 DRV, 6 VCC, 7 NC hidden, 8 HV

## NCP1200P60
designator *  value NCP1200P60  Reference: U
ki_keywords: SMPS Controller AC-DC; ki_description: PWM Current-Mode Controller for Off-Line Supplies, AC-DC, 60kHz, PDIP-8; ki_fp_filters: DIP*W7.62mm*; Footprint: Package_DIP:DIP-8_W7.62mm; Datasheet: http://www.onsemi.com/pub_link/Collateral/NCP1200-D.PDF
pins: 1 ADJ, 2 FB, 3 CS, 4 GND, 5 DRV, 6 VCC, 7 NC hidden, 8 HV

## NCP1200P100
designator *  value NCP1200P100  Reference: U
ki_keywords: SMPS Controller AC-DC; ki_description: PWM Current-Mode Controller for Off-Line Supplies, AC-DC, 100kHz, PDIP-8; ki_fp_filters: DIP*W7.62mm*; Footprint: Package_DIP:DIP-8_W7.62mm; Datasheet: http://www.onsemi.com/pub_link/Collateral/NCP1200-D.PDF
pins: 1 ADJ, 2 FB, 3 CS, 4 GND, 5 DRV, 6 VCC, 7 NC hidden, 8 HV

## NCP1203D40
designator *  value NCP1203D40  Reference: U
ki_keywords: SMPS Controller AC-DC; ki_description: PWM Current-Mode Controller for Universal Off-Line Supplies Featuring Standby and Short Circuit Protection, AC-DC, 40kHz, SOIC-8; ki_fp_filters: SOIC*3.9x4.9mm*P1.27mm*; Footprint: Package_SO:SOIC-8_3.9x4.9mm_P1.27mm; Datasheet: http://www.onsemi.com/pub_link/Collateral/NCP1203-D.PDF
pins: 1 ADJ, 2 FB, 3 CS, 4 GND, 5 DRV, 6 VCC, 7 NC hidden, 8 HV

## NCP1203D60
designator *  value NCP1203D60  Reference: U
ki_keywords: SMPS Controller AC-DC; ki_description: PWM Current-Mode Controller for Universal Off-Line Supplies Featuring Standby and Short Circuit Protection, AC-DC, 60kHz, SOIC-8; ki_fp_filters: SOIC*3.9x4.9mm*P1.27mm*; Footprint: Package_SO:SOIC-8_3.9x4.9mm_P1.27mm; Datasheet: http://www.onsemi.com/pub_link/Collateral/NCP1203-D.PDF
pins: 1 ADJ, 2 FB, 3 CS, 4 GND, 5 DRV, 6 VCC, 7 NC hidden, 8 HV

## NCP1203D100
designator *  value NCP1203D100  Reference: U
ki_keywords: SMPS Controller AC-DC; ki_description: PWM Current-Mode Controller for Universal Off-Line Supplies Featuring Standby and Short Circuit Protection, AC-DC, 100kHz, SOIC-8; ki_fp_filters: SOIC*3.9x4.9mm*P1.27mm*; Footprint: Package_SO:SOIC-8_3.9x4.9mm_P1.27mm; Datasheet: http://www.onsemi.com/pub_link/Collateral/NCP1203-D.PDF
pins: 1 ADJ, 2 FB, 3 CS, 4 GND, 5 DRV, 6 VCC, 7 NC hidden, 8 HV

## NCP1203P40
designator *  value NCP1203P40  Reference: U
ki_keywords: SMPS Controller AC-DC; ki_description: PWM Current-Mode Controller for Universal Off-Line Supplies Featuring Standby and Short Circuit Protection, AC-DC, 40kHz, PDIP-8; ki_fp_filters: DIP*W7.62mm*; Footprint: Package_DIP:DIP-8_W7.62mm; Datasheet: http://www.onsemi.com/pub_link/Collateral/NCP1203-D.PDF
pins: 1 ADJ, 2 FB, 3 CS, 4 GND, 5 DRV, 6 VCC, 7 NC hidden, 8 HV

## NCP1203P60
designator *  value NCP1203P60  Reference: U
ki_keywords: SMPS Controller AC-DC; ki_description: PWM Current-Mode Controller for Universal Off-Line Supplies Featuring Standby and Short Circuit Protection, AC-DC, 60kHz, PDIP-8; ki_fp_filters: DIP*W7.62mm*; Footprint: Package_DIP:DIP-8_W7.62mm; Datasheet: http://www.onsemi.com/pub_link/Collateral/NCP1203-D.PDF
pins: 1 ADJ, 2 FB, 3 CS, 4 GND, 5 DRV, 6 VCC, 7 NC hidden, 8 HV

## NCP1203P100
designator *  value NCP1203P100  Reference: U
ki_keywords: SMPS Controller AC-DC; ki_description: PWM Current-Mode Controller for Universal Off-Line Supplies Featuring Standby and Short Circuit Protection, AC-DC, 100kHz, PDIP-8; ki_fp_filters: DIP*W7.62mm*; Footprint: Package_DIP:DIP-8_W7.62mm; Datasheet: http://www.onsemi.com/pub_link/Collateral/NCP1203-D.PDF
pins: 1 ADJ, 2 FB, 3 CS, 4 GND, 5 DRV, 6 VCC, 7 NC hidden, 8 HV

## NCP1207A
designator *  value NCP1207A  Reference: U
ki_keywords: SMPS Controller AC-DC; ki_description: PWM Current-Mode Controller for Free Running Quasi-Resonant Operation, AC-DC, 8us min Toff, PDIP-8/SOIC-8; ki_fp_filters: SOIC*3.9x4.9mm*P1.27mm* DIP*W7.62mm*; Datasheet: http://www.onsemi.com/pub/Collateral/NCP1207B.PDF
pins: 1 DMG, 2 FB, 3 CS, 4 GND, 5 DRV, 6 VCC, 7 NC hidden, 8 HV

## NCP1207B
designator *  value NCP1207B  Reference: U
ki_keywords: SMPS Controller AC-DC; ki_description: PWM Current-Mode Controller for Free Running Quasi-Resonant Operation, AC-DC, 4.5us min Toff, SOIC-7; ki_fp_filters: SOIC*N7*3.9x4.9mm*P1.27mm*; Footprint: Package_SO:SOIC-8-N7_3.9x4.9mm_P1.27mm; Datasheet: http://www.onsemi.com/pub/Collateral/NCP1207B.PDF
pins: 1 DMG, 2 FB, 3 CS, 4 GND, 5 DRV, 6 VCC, 8 HV

## NCP1217AD65
designator *  value NCP1217AD65  Reference: U
ki_keywords: SMPS Controller AC-DC; ki_description: Enhanced PWM Current-Mode Controller for High-Power Universal Off-Line Supplies, AC-DC, 65kHz, 1ms Soft Start, SOIC-8; ki_fp_filters: SOIC*3.9x4.9mm*P1.27mm*; Footprint: Package_SO:SOIC-8_3.9x4.9mm_P1.27mm; Datasheet: http://www.onsemi.com/pub_link/Collateral/NCP1217-D.PDF
pins: 1 ADJ, 2 FB, 3 CS, 4 GND, 5 DRV, 6 VCC, 7 NC hidden, 8 HV

## NCP1217AD100
designator *  value NCP1217AD100  Reference: U
ki_keywords: SMPS Controller AC-DC; ki_description: Enhanced PWM Current-Mode Controller for High-Power Universal Off-Line Supplies, AC-DC, 100kHz, 1ms Soft Start, SOIC-8; ki_fp_filters: SOIC*3.9x4.9mm*P1.27mm*; Footprint: Package_SO:SOIC-8_3.9x4.9mm_P1.27mm; Datasheet: http://www.onsemi.com/pub_link/Collateral/NCP1217-D.PDF
pins: 1 ADJ, 2 FB, 3 CS, 4 GND, 5 DRV, 6 VCC, 7 NC hidden, 8 HV

## NCP1217AD133
designator *  value NCP1217AD133  Reference: U
ki_keywords: SMPS Controller AC-DC; ki_description: Enhanced PWM Current-Mode Controller for High-Power Universal Off-Line Supplies, AC-DC, 133kHz, 1ms Soft Start, SOIC-8; ki_fp_filters: SOIC*3.9x4.9mm*P1.27mm*; Footprint: Package_SO:SOIC-8_3.9x4.9mm_P1.27mm; Datasheet: http://www.onsemi.com/pub_link/Collateral/NCP1217-D.PDF
pins: 1 ADJ, 2 FB, 3 CS, 4 GND, 5 DRV, 6 VCC, 7 NC hidden, 8 HV

## NCP1217AP65
designator *  value NCP1217AP65  Reference: U
ki_keywords: SMPS Controller AC-DC; ki_description: Enhanced PWM Current-Mode Controller for High-Power Universal Off-Line Supplies, AC-DC, 65kHz, 1ms Soft Start, PDIP-8; ki_fp_filters: DIP*W7.62mm*; Footprint: Package_DIP:DIP-8_W7.62mm; Datasheet: http://www.onsemi.com/pub_link/Collateral/NCP1217-D.PDF
pins: 1 ADJ, 2 FB, 3 CS, 4 GND, 5 DRV, 6 VCC, 7 NC hidden, 8 HV

## NCP1217AP100
designator *  value NCP1217AP100  Reference: U
ki_keywords: SMPS Controller AC-DC; ki_description: Enhanced PWM Current-Mode Controller for High-Power Universal Off-Line Supplies, AC-DC, 100kHz, 1ms Soft Start, PDIP-8; ki_fp_filters: DIP*W7.62mm*; Footprint: Package_DIP:DIP-8_W7.62mm; Datasheet: http://www.onsemi.com/pub_link/Collateral/NCP1217-D.PDF
pins: 1 ADJ, 2 FB, 3 CS, 4 GND, 5 DRV, 6 VCC, 7 NC hidden, 8 HV

## NCP1217AP133
designator *  value NCP1217AP133  Reference: U
ki_keywords: SMPS Controller AC-DC; ki_description: Enhanced PWM Current-Mode Controller for High-Power Universal Off-Line Supplies, AC-DC, 133kHz, 1ms Soft Start, PDIP-8; ki_fp_filters: DIP*W7.62mm*; Footprint: Package_DIP:DIP-8_W7.62mm; Datasheet: http://www.onsemi.com/pub_link/Collateral/NCP1217-D.PDF
pins: 1 ADJ, 2 FB, 3 CS, 4 GND, 5 DRV, 6 VCC, 7 NC hidden, 8 HV

## NCP1217D65
designator *  value NCP1217D65  Reference: U
ki_keywords: SMPS Controller AC-DC; ki_description: Enhanced PWM Current-Mode Controller for High-Power Universal Off-Line Supplies, AC-DC, 65kHz, SOIC-8; ki_fp_filters: SOIC*3.9x4.9mm*P1.27mm*; Footprint: Package_SO:SOIC-8_3.9x4.9mm_P1.27mm; Datasheet: http://www.onsemi.com/pub_link/Collateral/NCP1217-D.PDF
pins: 1 ADJ, 2 FB, 3 CS, 4 GND, 5 DRV, 6 VCC, 7 NC hidden, 8 HV

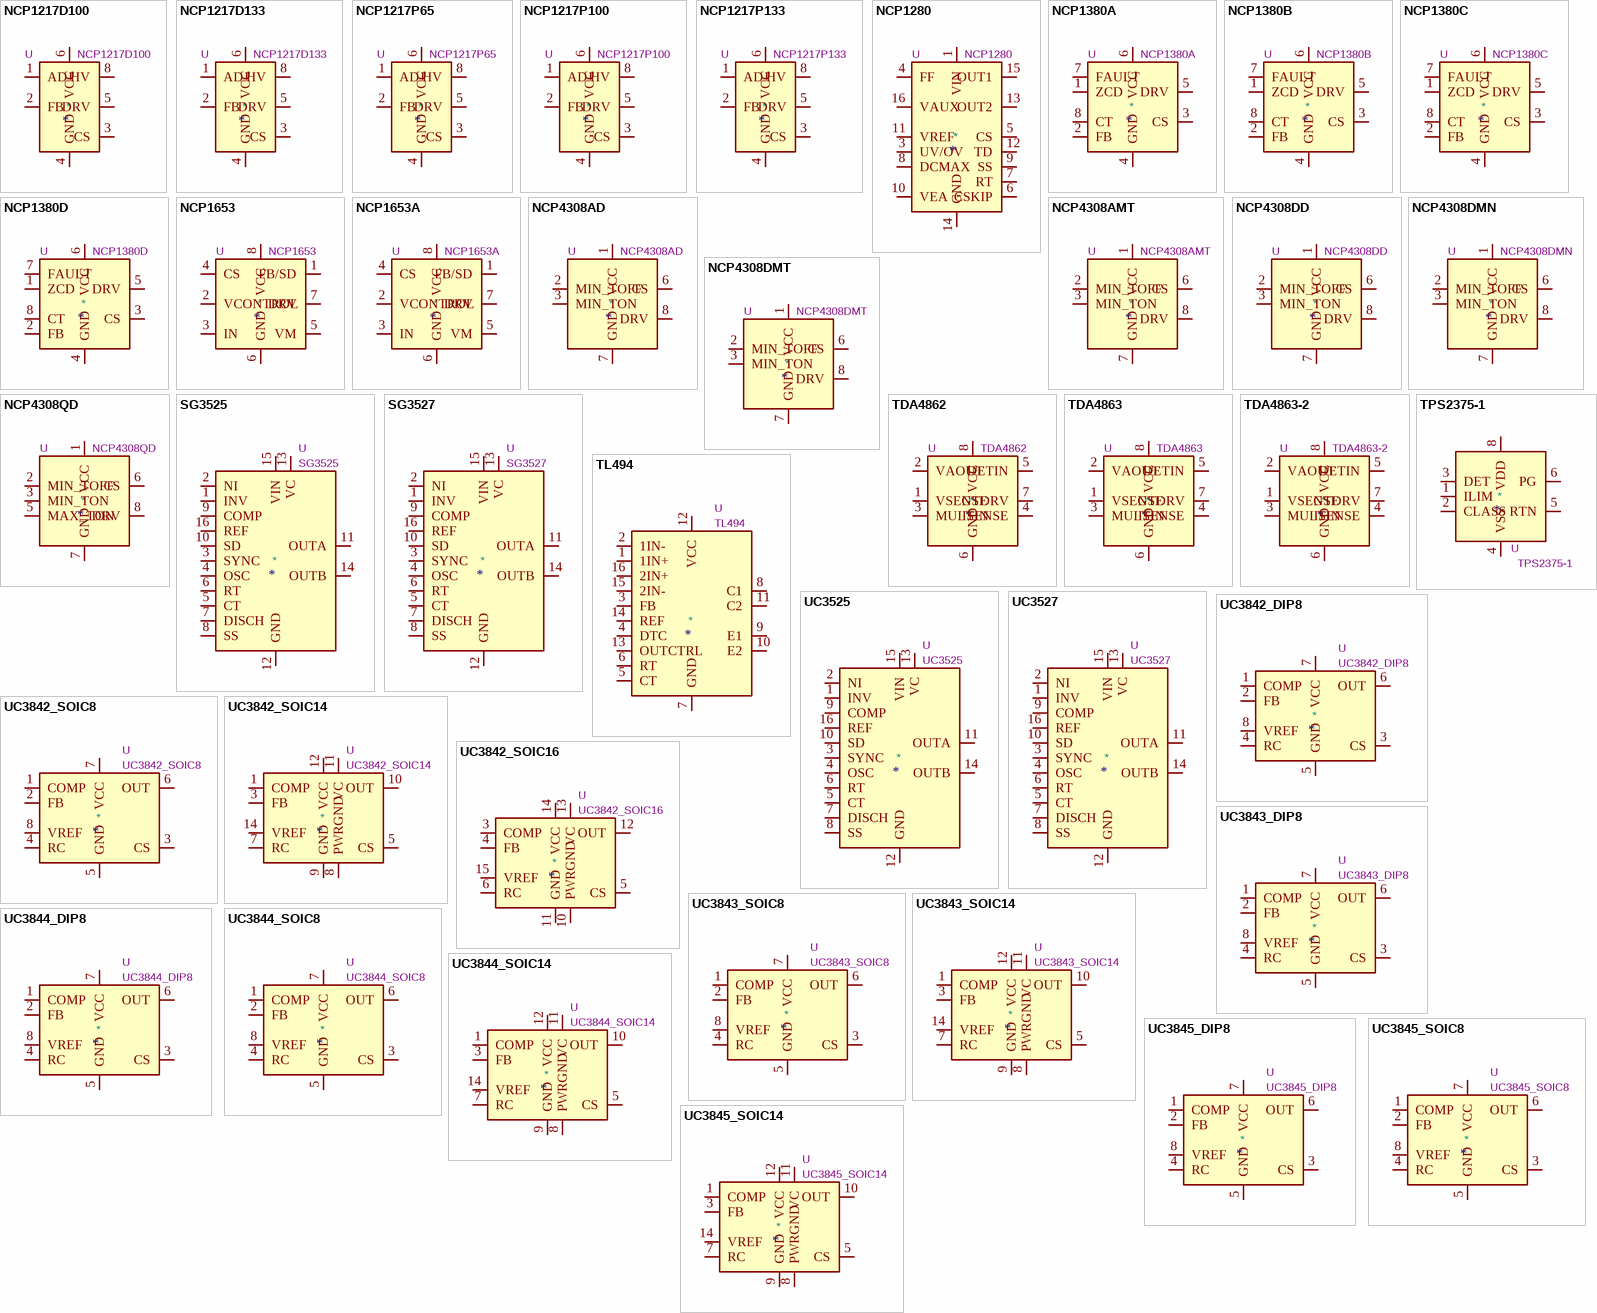
[diagram p2: symbols NCP1217D100 to UC3845_SOIC14]

## NCP1217D100
designator *  value NCP1217D100  Reference: U
ki_keywords: SMPS Controller AC-DC; ki_description: Enhanced PWM Current-Mode Controller for High-Power Universal Off-Line Supplies, AC-DC, 100kHz, SOIC-8; ki_fp_filters: SOIC*3.9x4.9mm*P1.27mm*; Footprint: Package_SO:SOIC-8_3.9x4.9mm_P1.27mm; Datasheet: http://www.onsemi.com/pub_link/Collateral/NCP1217-D.PDF
pins: 1 ADJ, 2 FB, 3 CS, 4 GND, 5 DRV, 6 VCC, 7 NC hidden, 8 HV

## NCP1217D133
designator *  value NCP1217D133  Reference: U
ki_keywords: SMPS Controller AC-DC; ki_description: Enhanced PWM Current-Mode Controller for High-Power Universal Off-Line Supplies, AC-DC, 133kHz, SOIC-8; ki_fp_filters: SOIC*3.9x4.9mm*P1.27mm*; Footprint: Package_SO:SOIC-8_3.9x4.9mm_P1.27mm; Datasheet: http://www.onsemi.com/pub_link/Collateral/NCP1217-D.PDF
pins: 1 ADJ, 2 FB, 3 CS, 4 GND, 5 DRV, 6 VCC, 7 NC hidden, 8 HV

## NCP1217P65
designator *  value NCP1217P65  Reference: U
ki_keywords: SMPS Controller AC-DC; ki_description: Enhanced PWM Current-Mode Controller for High-Power Universal Off-Line Supplies, AC-DC, 65kHz, PDIP-8; ki_fp_filters: DIP*W7.62mm*; Footprint: Package_DIP:DIP-8_W7.62mm; Datasheet: http://www.onsemi.com/pub_link/Collateral/NCP1217-D.PDF
pins: 1 ADJ, 2 FB, 3 CS, 4 GND, 5 DRV, 6 VCC, 7 NC hidden, 8 HV

## NCP1217P100
designator *  value NCP1217P100  Reference: U
ki_keywords: SMPS Controller AC-DC; ki_description: Enhanced PWM Current-Mode Controller for High-Power Universal Off-Line Supplies, AC-DC, 100kHz, PDIP-8; ki_fp_filters: DIP*W7.62mm*; Footprint: Package_DIP:DIP-8_W7.62mm; Datasheet: http://www.onsemi.com/pub_link/Collateral/NCP1217-D.PDF
pins: 1 ADJ, 2 FB, 3 CS, 4 GND, 5 DRV, 6 VCC, 7 NC hidden, 8 HV

## NCP1217P133
designator *  value NCP1217P133  Reference: U
ki_keywords: SMPS Controller AC-DC; ki_description: Enhanced PWM Current-Mode Controller for High-Power Universal Off-Line Supplies, AC-DC, 133kHz, PDIP-8; ki_fp_filters: DIP*W7.62mm*; Footprint: Package_DIP:DIP-8_W7.62mm; Datasheet: http://www.onsemi.com/pub_link/Collateral/NCP1217-D.PDF
pins: 1 ADJ, 2 FB, 3 CS, 4 GND, 5 DRV, 6 VCC, 7 NC hidden, 8 HV

## NCP1280
designator *  value NCP1280  Reference: U
ki_keywords: SMPS Controller AC-DC; ki_description: Active Clamp Voltage Mode PWM Controller for Off-Line Applications, SOIC-16; ki_fp_filters: SOIC*3.9x9.9mm*P1.27mm*; Footprint: Package_SO:SOIC-16_3.9x9.9mm_P1.27mm; Datasheet: https://www.onsemi.com/pub/Collateral/NCP1280-D.PDF
pins: 1 VIN, 2 NC hidden, 3 UV/OV, 4 FF, 5 CS, 6 CSKIP, 7 RT, 8 DCMAX, 9 SS, 10 VEA, 11 VREF, 12 TD, 13 OUT2, 14 GND, 15 OUT1, 16 VAUX

## NCP1380A
designator *  value NCP1380A  Reference: U
ki_keywords: SMPS Controller AC-DC; ki_description: Quasi-Resonant Current-Mode Controller for Off-Line Supplies, OVP/OTP, Latched OCP, SOIC-8; ki_fp_filters: SOIC*3.9x4.9mm*P1.27mm*; Footprint: Package_SO:SOIC-8_3.9x4.9mm_P1.27mm; Datasheet: https://www.onsemi.com/pub/Collateral/NCP1380-D.PDF
pins: 1 ZCD, 2 FB, 3 CS, 4 GND, 5 DRV, 6 VCC, 7 FAULT, 8 CT

## NCP1380B
designator *  value NCP1380B  Reference: U
ki_keywords: SMPS Controller AC-DC; ki_description: Quasi-Resonant Current-Mode Controller for Off-Line Supplies, OVP/OTP, Auto-Recovery OCP, SOIC-8; ki_fp_filters: SOIC*3.9x4.9mm*P1.27mm*; Footprint: Package_SO:SOIC-8_3.9x4.9mm_P1.27mm; Datasheet: https://www.onsemi.com/pub/Collateral/NCP1380-D.PDF
pins: 1 ZCD, 2 FB, 3 CS, 4 GND, 5 DRV, 6 VCC, 7 FAULT, 8 CT

## NCP1380C
designator *  value NCP1380C  Reference: U
ki_keywords: SMPS Controller AC-DC; ki_description: Quasi-Resonant Current-Mode Controller for Off-Line Supplies, UVP/OVP, Latched OCP, SOIC-8; ki_fp_filters: SOIC*3.9x4.9mm*P1.27mm*; Footprint: Package_SO:SOIC-8_3.9x4.9mm_P1.27mm; Datasheet: https://www.onsemi.com/pub/Collateral/NCP1380-D.PDF
pins: 1 ZCD, 2 FB, 3 CS, 4 GND, 5 DRV, 6 VCC, 7 FAULT, 8 CT

## NCP1380D
designator *  value NCP1380D  Reference: U
ki_keywords: SMPS Controller AC-DC; ki_description: Quasi-Resonant Current-Mode Controller for Off-Line Supplies, UVP/OVP, Auto-Recovery OCP, SOIC-8; ki_fp_filters: SOIC*3.9x4.9mm*P1.27mm*; Footprint: Package_SO:SOIC-8_3.9x4.9mm_P1.27mm; Datasheet: https://www.onsemi.com/pub/Collateral/NCP1380-D.PDF
pins: 1 ZCD, 2 FB, 3 CS, 4 GND, 5 DRV, 6 VCC, 7 FAULT, 8 CT

## NCP1653
designator *  value NCP1653  Reference: U
ki_keywords: PFC SMPS Controller; ki_description: Compact, Fixed-Frequency, Continuous Conduction Mode PFC Controller, 100kHz, DIP-8/SOIC-8; ki_fp_filters: SOIC*3.9x4.9mm*P1.27mm* DIP*W7.62mm*; Datasheet: https://www.onsemi.com/pub/Collateral/NCP1653-D.PDF
pins: 1 FB/SD, 2 VCONTROL, 3 IN, 4 CS, 5 VM, 6 GND, 7 DRV, 8 VCC

## NCP1653A
designator *  value NCP1653A  Reference: U
ki_keywords: PFC SMPS Controller; ki_description: Compact, Fixed-Frequency, Continuous Conduction Mode PFC Controller, 67kHz, DIP-8/SOIC-8; ki_fp_filters: SOIC*3.9x4.9mm*P1.27mm* DIP*W7.62mm*; Datasheet: https://www.onsemi.com/pub/Collateral/NCP1653-D.PDF
pins: 1 FB/SD, 2 VCONTROL, 3 IN, 4 CS, 5 VM, 6 GND, 7 DRV, 8 VCC

## NCP4308AD
designator *  value NCP4308AD  Reference: U
ki_keywords: synchronous rectifier controller; ki_description: Synchronous Rectifier Controller, 4A/8A, 4V UVLO, GaN Capable, SOIC-8; ki_fp_filters: SOIC*3.9x4.9mm*P1.27mm*; Footprint: Package_SO:SOIC-8_3.9x4.9mm_P1.27mm; Datasheet: http://www.onsemi.com/pub/Collateral/NCP4308-D.PDF
pins: 1 VCC, 2 MIN_TOFF, 3 MIN_TON, 4 NC hidden, 5 NC hidden, 6 CS, 7 GND, 8 DRV

## NCP4308AMT
designator *  value NCP4308AMT  Reference: U
ki_keywords: synchronous rectifier controller; ki_description: Synchronous Rectifier Controller, 4A/8A, 4V UVLO, GaN Capable, WDFN-8; ki_fp_filters: OnSemi*DFN*2x2mm*P0.5mm*; Footprint: Package_DFN_QFN:OnSemi_DFN-8_2x2mm_P0.5mm; Datasheet: http://www.onsemi.com/pub/Collateral/NCP4308-D.PDF
pins: 1 VCC, 2 MIN_TOFF, 3 MIN_TON, 4 NC hidden, 5 NC hidden, 6 CS, 7 GND, 8 DRV

## NCP4308DD
designator *  value NCP4308DD  Reference: U
ki_keywords: synchronous rectifier controller; ki_description: Synchronous Rectifier Controller, 4A/8A, 4V UVLO, SOIC-8; ki_fp_filters: SOIC*3.9x4.9mm*P1.27mm*; Footprint: Package_SO:SOIC-8_3.9x4.9mm_P1.27mm; Datasheet: http://www.onsemi.com/pub/Collateral/NCP4308-D.PDF
pins: 1 VCC, 2 MIN_TOFF, 3 MIN_TON, 4 NC hidden, 5 NC hidden, 6 CS, 7 GND, 8 DRV

## NCP4308DMN
designator *  value NCP4308DMN  Reference: U
ki_keywords: synchronous rectifier controller; ki_description: Synchronous Rectifier Controller, 4A/8A, 4V UVLO, DFN-8; ki_fp_filters: DFN*1EP*4x4mm*P0.8mm*EP2.39x2.21mm*; Footprint: Package_DFN_QFN:DFN-8-1EP_4x4mm_P0.8mm_EP2.39x2.21mm; Datasheet: http://www.onsemi.com/pub/Collateral/NCP4308-D.PDF
pins: 1 VCC, 2 MIN_TOFF, 3 MIN_TON, 4 NC hidden, 5 NC hidden, 6 CS, 7 GND, 8 DRV

## NCP4308DMT
designator *  value NCP4308DMT  Reference: U
ki_keywords: synchronous rectifier controller; ki_description: Synchronous Rectifier Controller, 4A/8A, 4V UVLO, WDFN-8; ki_fp_filters: OnSemi*DFN*2x2mm*P0.5mm*; Footprint: Package_DFN_QFN:OnSemi_DFN-8_2x2mm_P0.5mm; Datasheet: http://www.onsemi.com/pub/Collateral/NCP4308-D.PDF
pins: 1 VCC, 2 MIN_TOFF, 3 MIN_TON, 4 NC hidden, 5 NC hidden, 6 CS, 7 GND, 8 DRV

## NCP4308QD
designator *  value NCP4308QD  Reference: U
ki_keywords: synchronous rectifier controller; ki_description: Synchronous Rectifier Controller, 4A/8A, 4V UVLO, Max TON, SOIC-8; ki_fp_filters: SOIC*3.9x4.9mm*P1.27mm*; Footprint: Package_SO:SOIC-8_3.9x4.9mm_P1.27mm; Datasheet: http://www.onsemi.com/pub/Collateral/NCP4308-D.PDF
pins: 1 VCC, 2 MIN_TOFF, 3 MIN_TON, 4 NC hidden, 5 MAX_TON, 6 CS, 7 GND, 8 DRV

## SG3525
designator *  value SG3525  Reference: U
ki_keywords: SMPS PWM Controller; ki_description: Regulating Pulse Width Modulators, NOR Logic, PDIP-16/SOIC-16; ki_fp_filters: SOIC*16*3.9x9.9mm*P1.27mm* SOIC*16*7.5x10.3mm*P1.27mm* DIP*16*W7.62mm*; Datasheet: www.st.com/resource/en/datasheet/sg3525.pdf
pins: 1 INV, 2 NI, 3 SYNC, 4 OSC, 5 CT, 6 RT, 7 DISCH, 8 SS, 9 COMP, 10 SD, 11 OUTA, 12 GND, 13 VC, 14 OUTB, 15 VIN, 16 REF

## SG3527
designator *  value SG3527  Reference: U
ki_keywords: SMPS PWM Controller; ki_description: Regulating Pulse Width Modulators, OR Logic, PDIP-16/SOIC-16; ki_fp_filters: SOIC*16*3.9x9.9mm*P1.27mm* SOIC*16*7.5x10.3mm*P1.27mm* DIP*16*W7.62mm*; Datasheet: https://www.microsemi.com/document-portal/doc_view/11120-sg1525a-sg1527a-datasheet
pins: 1 INV, 2 NI, 3 SYNC, 4 OSC, 5 CT, 6 RT, 7 DISCH, 8 SS, 9 COMP, 10 SD, 11 OUTA, 12 GND, 13 VC, 14 OUTB, 15 VIN, 16 REF

## TDA4862
designator *  value TDA4862  Reference: U
ki_keywords: PFC SMPS Controller; ki_description: Power Factor Controller IC for High Power Factor and Active Harmonic Filter, DIP-8/SOIC-8; ki_fp_filters: SOIC*3.9x4.9mm*P1.27mm* DIP*W7.62mm*; Datasheet: https://www.infineon.com/dgdl/Infineon-PFC_DCMICTDA4862G-DS-v02_00-en.pdf?fileId=db3a304412b407950112b417ffae24a3
pins: 1 VSENSE, 2 VAOUT, 3 MULTIN, 4 ISENSE, 5 DETIN, 6 GND, 7 GTDRV, 8 VCC

## TDA4863
designator *  value TDA4863  Reference: U
ki_keywords: PFC SMPS Controller; ki_description: Power Factor Controller IC for High Power Factor and Low THD, DIP-8/SOIC-8; ki_fp_filters: SOIC*3.9x4.9mm*P1.27mm* DIP*W7.62mm*; Datasheet: https://www.infineon.com/dgdl/Infineon-TDA4863-DS-v02_00-en.pdf?fileId=db3a304412b407950112b427d2d23ce8
pins: 1 VSENSE, 2 VAOUT, 3 MULTIN, 4 ISENSE, 5 DETIN, 6 GND, 7 GTDRV, 8 VCC

## TDA4863-2
designator *  value TDA4863-2  Reference: U
ki_keywords: PFC SMPS Controller; ki_description: Power Factor Controller IC for High Power Factor and Low THD, DIP-8/SOIC-8; ki_fp_filters: SOIC*3.9x4.9mm*P1.27mm* DIP*W7.62mm*; Datasheet: https://www.infineon.com/dgdl/Infineon-TDA4863_2-DS-v02_01-en.pdf?fileId=db3a304412b407950112b41802de24ab
pins: 1 VSENSE, 2 VAOUT, 3 MULTIN, 4 ISENSE, 5 DETIN, 6 GND, 7 GTDRV, 8 VCC

## TL494
designator *  value TL494  Reference: U
ki_keywords: SMPS PWM Controller; ki_description: Pulse-Width-Modulation Control Circuits, PDIP-16/SOIC-16/TSSOP-16; ki_fp_filters: TSSOP*4.4x5mm*P0.65mm* SOIC*3.9x9.9mm*P1.27mm* SOIC*5.3x10.2mm*P1.27mm* DIP*W7.62mm*; Datasheet: http://www.ti.com/lit/ds/symlink/tl494.pdf
pins: 1 1IN+, 2 1IN-, 3 FB, 4 DTC, 5 CT, 6 RT, 7 GND, 8 C1, 9 E1, 10 E2, 11 C2, 12 VCC, 13 OUTCTRL, 14 REF, 15 2IN-, 16 2IN+

## TPS2375-1
designator *  value TPS2375-1  Reference: U
ki_keywords: IEEE802.3af PoE; ki_description: IEEE802.3af PoE Controller, Auto-Retry; ki_fp_filters: TSSOP*4.4x3mm*P0.65mm*; Footprint: Package_SO:TSSOP-8_4.4x3mm_P0.65mm; Datasheet: https://www.ti.com/lit/gpn/tps2375-1
pins: 1 ILIM, 2 CLASS, 3 DET, 4 VSS, 5 RTN, 6 PG, 7 NC hidden, 8 VDD

## UC3525
designator *  value UC3525  Reference: U
ki_keywords: SMPS PWM Controller; ki_description: Regulating Pulse Width Modulators, NOR Logic, PDIP-16/SOIC-16; ki_fp_filters: SOIC*16*7.5x10.3mm*P1.27mm* DIP*16*W7.62mm*; Datasheet: http://www.ti.com/lit/ds/symlink/uc2525b.pdf
pins: 1 INV, 2 NI, 3 SYNC, 4 OSC, 5 CT, 6 RT, 7 DISCH, 8 SS, 9 COMP, 10 SD, 11 OUTA, 12 GND, 13 VC, 14 OUTB, 15 VIN, 16 REF

## UC3527
designator *  value UC3527  Reference: U
ki_keywords: SMPS PWM Controller; ki_description: Regulating Pulse Width Modulators, OR Logic, PDIP-16/SOIC-16; ki_fp_filters: SOIC*16*7.5x10.3mm*P1.27mm* DIP*16*W7.62mm*; Datasheet: http://www.ti.com/lit/ds/symlink/uc2525b.pdf
pins: 1 INV, 2 NI, 3 SYNC, 4 OSC, 5 CT, 6 RT, 7 DISCH, 8 SS, 9 COMP, 10 SD, 11 OUTA, 12 GND, 13 VC, 14 OUTB, 15 VIN, 16 REF

## UC3842_DIP8
designator *  value UC3842_DIP8  Reference: U
ki_keywords: SMPS PWM Controller; ki_description: Current-Mode PWM Controllers, 100% Duty Cycle, 16V/10V UVLO, PDIP-8; ki_fp_filters: DIP*W7.62mm*; Footprint: Package_DIP:DIP-8_W7.62mm; Datasheet: http://www.ti.com/lit/ds/symlink/uc3842.pdf
pins: 1 COMP, 2 FB, 3 CS, 4 RC, 5 GND, 6 OUT, 7 VCC, 8 VREF

## UC3842_SOIC8
designator *  value UC3842_SOIC8  Reference: U
ki_keywords: SMPS PWM Controller; ki_description: Current-Mode PWM Controllers, 100% Duty Cycle, 16V/10V UVLO, SOIC-8; ki_fp_filters: SOIC*3.9x4.9mm*P1.27mm*; Footprint: Package_SO:SOIC-8_3.9x4.9mm_P1.27mm; Datasheet: http://www.ti.com/lit/ds/symlink/uc3842.pdf
pins: 1 COMP, 2 FB, 3 CS, 4 RC, 5 GND, 6 OUT, 7 VCC, 8 VREF

## UC3842_SOIC14
designator *  value UC3842_SOIC14  Reference: U
ki_keywords: SMPS PWM Controller; ki_description: Current-Mode PWM Controllers, 100% Duty Cycle, 16V/10V UVLO, SOIC-14; ki_fp_filters: SOIC*3.9x8.7mm*P1.27mm*; Footprint: Package_SO:SOIC-14_3.9x8.7mm_P1.27mm; Datasheet: http://www.ti.com/lit/ds/symlink/uc3842.pdf
pins: 1 COMP, 2 NC hidden, 3 FB, 4 NC hidden, 5 CS, 6 NC hidden, 7 RC, 8 PWRGND, 9 GND, 10 OUT, 11 VC, 12 VCC, 13 NC hidden, 14 VREF

## UC3842_SOIC16
designator *  value UC3842_SOIC16  Reference: U
ki_keywords: SMPS PWM Controller; ki_description: Current-Mode PWM Controllers, 100% Duty Cycle, 16V/10V UVLO, SOIC-16; ki_fp_filters: SOIC*7.5x10.3mm*P1.27mm*; Footprint: Package_SO:SOIC-16W_7.5x10.3mm_P1.27mm; Datasheet: http://www.ti.com/lit/ds/symlink/uc2843a.pdf
pins: 1 NC hidden, 2 NC hidden, 3 COMP, 4 FB, 5 CS, 6 RC, 7 NC hidden, 8 NC hidden, 9 NC hidden, 10 PWRGND, 11 GND, 12 OUT, 13 VC, 14 VCC, 15 VREF, 16 NC hidden

## UC3843_DIP8
designator *  value UC3843_DIP8  Reference: U
ki_keywords: SMPS PWM Controller; ki_description: Current-Mode PWM Controllers, 100% Duty Cycle, 8.4V/7.6V UVLO, PDIP-8; ki_fp_filters: DIP*W7.62mm*; Footprint: Package_DIP:DIP-8_W7.62mm; Datasheet: http://www.ti.com/lit/ds/symlink/uc3842.pdf
pins: 1 COMP, 2 FB, 3 CS, 4 RC, 5 GND, 6 OUT, 7 VCC, 8 VREF

## UC3843_SOIC8
designator *  value UC3843_SOIC8  Reference: U
ki_keywords: SMPS PWM Controller; ki_description: Current-Mode PWM Controllers, 100% Duty Cycle, 8.4V/7.6V UVLO, SOIC-8; ki_fp_filters: SOIC*3.9x4.9mm*P1.27mm*; Footprint: Package_SO:SOIC-8_3.9x4.9mm_P1.27mm; Datasheet: http://www.ti.com/lit/ds/symlink/uc3842.pdf
pins: 1 COMP, 2 FB, 3 CS, 4 RC, 5 GND, 6 OUT, 7 VCC, 8 VREF

## UC3843_SOIC14
designator *  value UC3843_SOIC14  Reference: U
ki_keywords: SMPS PWM Controller; ki_description: Current-Mode PWM Controllers, 100% Duty Cycle, 8.4V/7.6V UVLO, SOIC-14; ki_fp_filters: SOIC*3.9x8.7mm*P1.27mm*; Footprint: Package_SO:SOIC-14_3.9x8.7mm_P1.27mm; Datasheet: http://www.ti.com/lit/ds/symlink/uc3842.pdf
pins: 1 COMP, 2 NC hidden, 3 FB, 4 NC hidden, 5 CS, 6 NC hidden, 7 RC, 8 PWRGND, 9 GND, 10 OUT, 11 VC, 12 VCC, 13 NC hidden, 14 VREF